# Altium integrated library Simulation Generic Components.IntLib: 218 symbols (part 7 of 7)
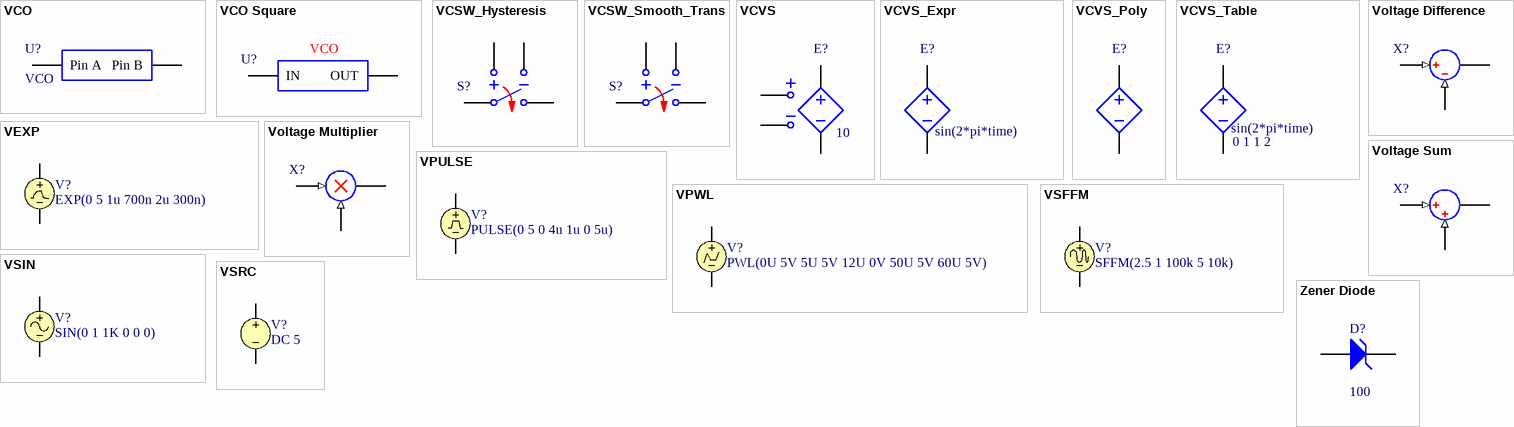
[diagram p11: symbols VCO to Zener Diode]

## VSFFM
designator V?, comment SFFM(2.5 1 100k 5 10k)
Frequency-Modulated Sinusoidal Voltage Source; Note: PCB Footprint - Not required; Offset: 2.5; Amplitude: 1; Modulation Index: 5; Carrier Phase: 0; Published: 8-Jun-2000; LatestRevisionDate: 17-Jul-2002; LatestRevisionNote: Re-released for DXP Platform.; PackageReference: Not Applicable; Publisher: Altium Limited; Carrier Frequency: 100k; Signal Frequency: 10k; Signal Phase: 0; DC Magnitude: 0; AC Magnitude: 1; AC Phase: 0
simulation model VSFFM
pins: 1, 2

## VSIN
designator V?, comment SIN(0 1 1K 0 0 0)
Sinusoidal Voltage Source; Note: PCB Footprint - Not required; Offset: 0; Amplitude: 1; Published: 8-Jun-2000; LatestRevisionDate: 15-Nov-2004; LatestRevisionNote: Corrected Netlist.; PackageReference: Not Applicable; Publisher: Altium Limited; Frequency: 1K; Delay: 0; Damping Factor: 0; Phase: 0; DC Magnitude: 0; AC Magnitude: 1; AC Phase: 0
simulation model VSIN
pins: 1, 2

## VSRC
designator V?, comment DC 5
Voltage Source; Note: PCB Footprint - Not required; AC Magnitude: 1; AC Phase: 0; Value: 5; Published: 8-Jun-2000; LatestRevisionDate: 17-Jul-2002; LatestRevisionNote: Re-released for DXP Platform.; PackageReference: Not Applicable; Publisher: Altium Limited
simulation model VSRC
pins: 1, 2

## Zener Diode
designator D?  BV: 100  (hidden comment: Zener Diode)
AF: 1; BV_MAX: 1e99; CJO: 0; EG: 1.11; FC: 0.5; IBV: 0.001; IS: 1e-14; MJSW: 0.33; NTUN: 30; TNOM: 27; XTI: 3; SimulationGenericComponent: True; CJP: 0; CTA: 0; CTP: 0; FCS: 0.5; FV_MAX: 1e99; IKF: 0; IKR: 0; ISR: 1e-14; JSW: 0; JTUN: 0; JTUNSW: 0; KEG: 1; KF: 0; LEVEL: 1; N: 1; NBV: 1; NR: 1; NS: 1; PHP: 1; RS: 0; TCV: 0; TLEV: 0; TLEVC: 0; TM1: 0; TM2: 0; TPB: 0; TPHP: 0; TRS: 0; TRS2: 0; TT: 0; TTT1: 0; TTT2: 0; VJ: 1; XTITUN: 3
simulation model diode (Diodes)
pins: 1 A, 2 K